# EAGLE library part LT3757 (library LED_Driver_Board)
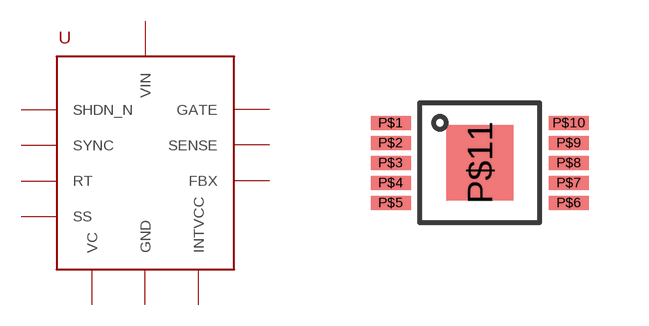
[diagram p0: symbol with the pads of MSOP10; footprint MSOP10]

Designator prefix U

## LT3757  [MSOP10]
P$1  VC
P$2  FBX
P$3  SS
P$4  RT
P$5  SYNC
P$6  SENSE
P$7  GATE
P$8  INTVCC
P$9  SHDN_N
P$10  VIN
P$11  GND

## Footprint MSOP10 (pad centres in mm)
smd 1 x 0.35: P$1 -2.23,1; P$2 -2.23,0.5; P$3 -2.23,0; P$4 -2.23,-0.5; P$5 -2.23,-1; P$6 2.23,-1; P$7 2.23,-0.5; P$8 2.23,0; P$9 2.23,0.5; P$10 2.23,1
smd 1.68 x 1.88: P$11 0,0